# EAGLE library part CON-CYPRESSINDUSTRIES_MINI-USB-SCHIELD- (library SAVMakerI)
MINI USB-B Conector Source: www.cypressindustries.com
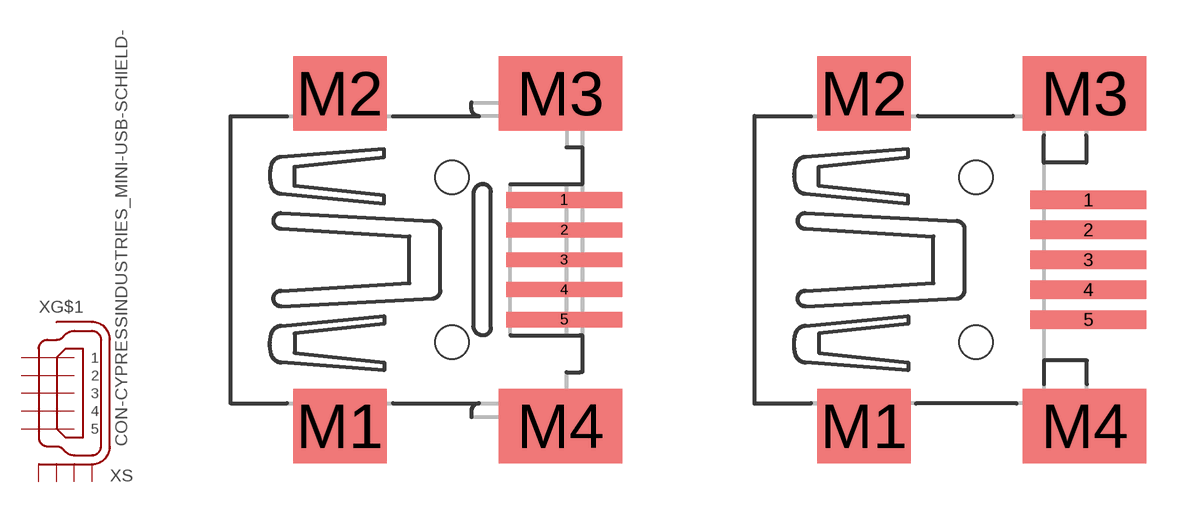
[diagram p5: symbol with the pads of CON-CYPRESSINDUSTRIES_32005-201; footprints CON-CYPRESSINDUSTRIES_32005-201, CON-CYPRESSINDUSTRIES_32005-301]

Designator prefix X; gates G$1=CON-CYPRESSINDUSTRIES_MINI-USB-5 S=CON-CYPRESSINDUSTRIES_SHIELD_4

## CON-CYPRESSINDUSTRIES_MINI-USB-SCHIELD-32005-201 (OC_FARNELL: unknown; OC_NEWARK: unknown)  [CON-CYPRESSINDUSTRIES_32005-201]
1  G$1:1  pas
2  G$1:2  pas
3  G$1:3  pas
4  G$1:4  pas
5  G$1:5  pas
M1  S:S1  pas
M2  S:S2  pas
M3  S:S3  pas
M4  S:S4  pas

## CON-CYPRESSINDUSTRIES_MINI-USB-SCHIELD-32005-301 (OC_FARNELL: unknown; OC_NEWARK: unknown)  [CON-CYPRESSINDUSTRIES_32005-301]
Pads as for CON-CYPRESSINDUSTRIES_32005-201

## Footprint CON-CYPRESSINDUSTRIES_32005-201 (pad centres in mm)
MINI USB-B R/A SMT W/ REAR Source: http://www.cypressindustries.com/pdf/32005-201.pdf
smd 3.1 x 0.42: 1 3,1.6; 5 3,-1.6
smd 3.1 x 0.4: 2 3,0.8; 3 3,0; 4 3,-0.8
smd 2.5 x 2: M1 -3,-4.45; M2 -3,4.45
smd 3.3 x 2: M3 2.9,4.45; M4 2.9,-4.45
hole 0.9 at 0,2.2
hole 0.9 at 0,-2.2

## Footprint CON-CYPRESSINDUSTRIES_32005-301 (pad centres in mm)
MINI USB-B R/A SMT W/O REAR Source: http://www.cypressindustries.com/pdf/32005-301.pdf
smd 3.1 x 0.5: 1 3,1.6; 2 3,0.8; 3 3,0; 4 3,-0.8; 5 3,-1.6
smd 2.5 x 2: M1 -3,-4.45; M2 -3,4.45
smd 3.3 x 2: M3 2.9,4.45; M4 2.9,-4.45
hole 0.9 at 0,2.2
hole 0.9 at 0,-2.2